# EAGLE library part DS3234 (library maxim)
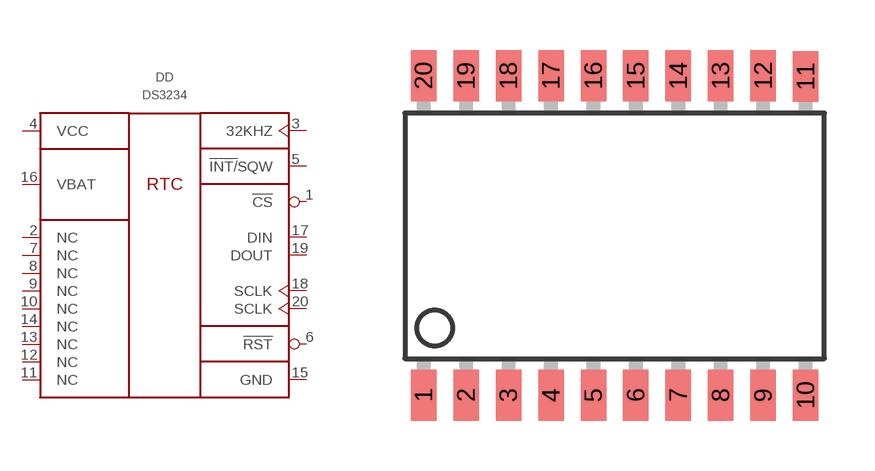
[diagram p2: symbol with the pads of SO-20LD; footprint SO-20LD]

Designator prefix DD

## DS3234SN#  [SO-20LD]
1  !CS  in
2  NC  nc
3  32KHZ  out
4  VCC  pwr
5  !INT/!SQW  out
6  !RST  in
7  NC  nc
8  NC  nc
9  NC  nc
10  NC  nc
11  NC  nc
12  NC  nc
13  NC  nc
14  NC  nc
15  GND  pwr
16  VBAT  pwr
17  DIN  in
18  SCLK  in
19  DOUT  out
20  SCLK  in

## Footprint SO-20LD (pad centres in mm)
Small Outline Package
smd 0.762 x 1.524: 1 -5.715,-4.775; 2 -4.445,-4.775; 3 -3.175,-4.775; 4 -1.905,-4.775; 5 -0.635,-4.775; 6 0.635,-4.775; 7 1.905,-4.775; 8 3.175,-4.775; 9 4.445,-4.775; 10 5.715,-4.775; 11 5.715,4.75; 12 4.445,4.775; 13 3.175,4.775; 14 1.905,4.775; 15 0.635,4.775; 16 -0.635,4.775; 17 -1.905,4.775; 18 -3.175,4.775; 19 -4.445,4.775; 20 -5.715,4.775